# EAGLE library part GBA-TRANSFORMER (library arcadetv)
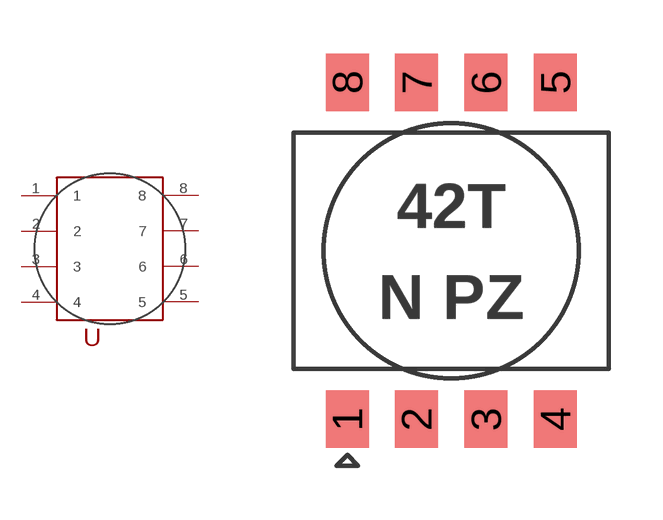
[diagram p19: symbol with the pads of GBA-TRANSFORMER; footprint GBA-TRANSFORMER]

Designator prefix -

## GBA-TRANSFORMER  [GBA-TRANSFORMER]
1  1
2  2
3  3
4  4
5  5
6  6
7  7
8  8

## Footprint GBA-TRANSFORMER (pad centres in mm)
smd 1.2 x 1.6: 1 -2.9,-4.7; 2 -0.967,-4.7; 3 0.966,-4.7; 4 2.9,-4.7; 5 2.9,4.7; 6 0.966,4.7; 7 -0.967,4.7; 8 -2.9,4.7